# Altium footprint library MB11361.PcbLib: 40 footprints (part 3 of 3)
Each footprint in its own frame and in the unit in brackets; x right, y up, seen from the top. Pads: shape width x height; smd on the part's side, far side on the other; paste and mask are expansions set on the pad; w line width, h text height; cw(c..) or ccw(c..) is an arc to the next point about the centre after c.
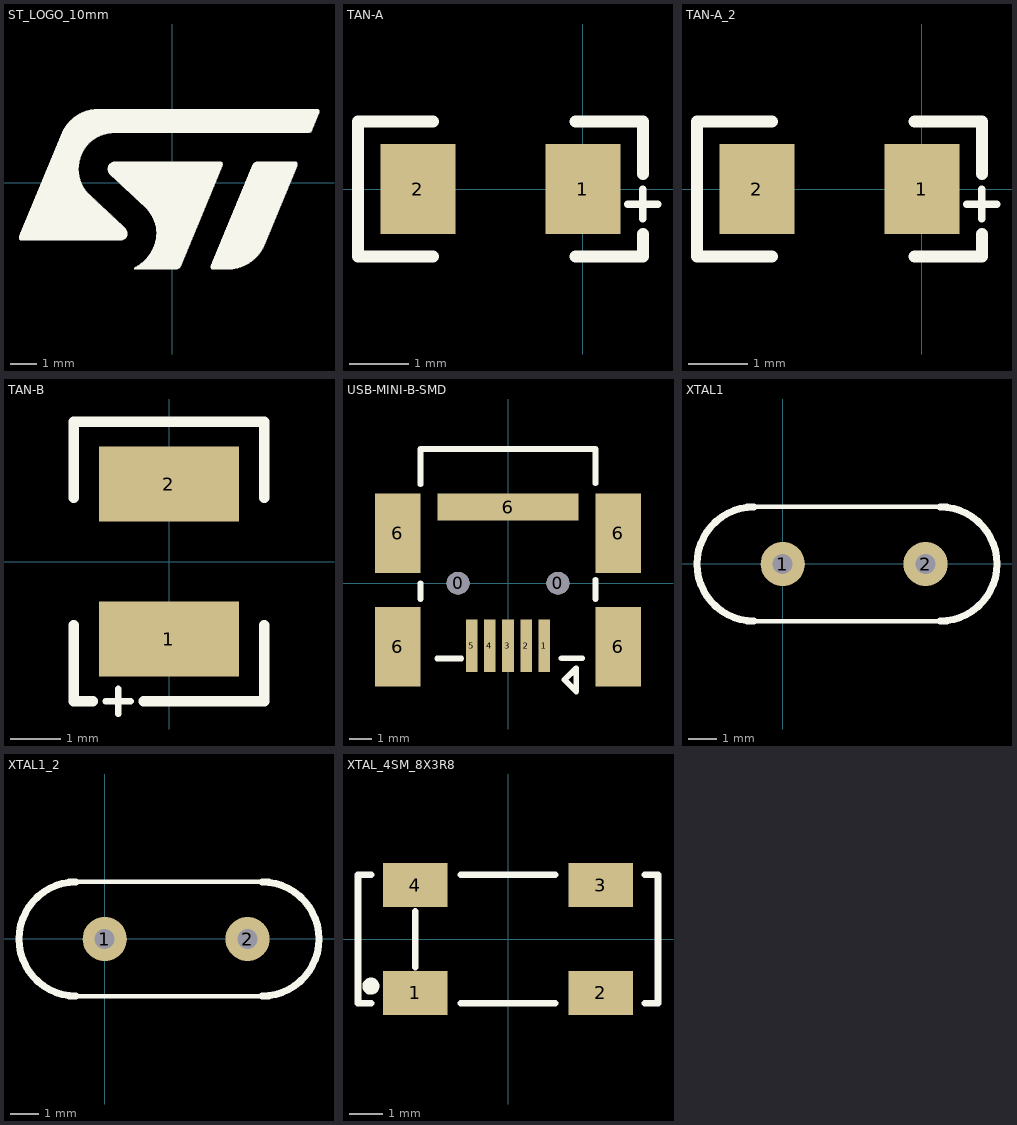
[diagram p2: the footprints below, top view; thin cyan lines are the x and y axes]

## ST_LOGO_10mm [mm]
height 1.1
Top Overlay:
  drawing of 1036 lines, arcs and shapes, not listed

## TAN-A [mil]
height 39.37
pads (2):
  rect 50x60 smd: 1(0,0) 2(-110,0)
Top Overlay:
  lines w5: 30,-10 50,-10 ; 40,-20 40,0
  lines w8: -100,-45 -150,-45 -150,45 -100,45 ; -5,-45 40,-45 40,-30 ; -5,45 40,45 40,10

## TAN-A_2 [mil]
pads (2):
  rect 50x60 smd: 1(0,0) 2(-110,0)
Top Overlay:
  lines w5: 30,-10 50,-10 ; 40,-20 40,0
  lines w8: -100,-45 -150,-45 -150,45 -100,45 ; -5,-45 40,-45 40,-30 ; -5,45 40,45 40,10

## TAN-B [mm]
height 5
pads (2):
  rect 2.8x1.5 smd: 1(0,-1.55) 2(0,1.55)
Top Overlay:
  lines w0.127: -1.27,-2.794 -0.762,-2.794 ; -1.016,-3.048 -1.016,-2.54
  lines w0.203: -1.905,-1.27 -1.905,-2.794 -1.524,-2.794 ; -1.905,1.27 -1.905,2.794 1.905,2.794 1.905,1.27 ; -0.508,-2.794 1.905,-2.794 1.905,-1.27
Mechanical 13:
  lines w0.1: -1.35,-1.7 1.35,-1.7 ; -1.35,1.7 1.35,1.7

## USB-MINI-B-SMD [mm]
height 2
pads (12):
  round 1 hole 1 unplated: 0(-2.2,0) 0(2.194,0)
  rect 0.508x2.3 smd: 1(1.597,-2.75) 2(0.797,-2.75) 3(-0.003,-2.75) 4(-0.803,-2.75) 5(-1.603,-2.75)
  rect 2x3.5 smd: 6(-4.853,-2.8) 6(-4.853,2.2) 6(4.847,-2.8) 6(4.847,2.2)
  rect 6.2x1.2 smd: 6(0,3.35)
Top Overlay:
  lines w0.254: -3.853,-0.7 -3.853,0 ; -3.853,4.35 -3.853,5.9 3.847,5.9 3.847,4.4 ; -3.113,-3.308 -2.06,-3.308 ; 2.347,-3.302 3.267,-3.302 ; 3.847,-0.7 3.847,0.15 ; 2.489,-4.253 2.997,-4.761 2.997,-3.745 2.489,-4.253

## XTAL1 [mil]
height 78.74
pads (2):
  round 62 hole 28: 1(-0.36,-0.2) 2(199.64,-0.2)
Top Overlay:
  lines w6.3: -40.36,-80.2 219.64,-80.2 ; -40.36,79.8 219.64,79.8
  lines w10: -40.36,-80.2 cw(c-40.36,-0.2) -40.36,79.8 ; 219.64,-80.2 ccw(c219.64,-0.2) 219.64,79.8

## XTAL1_2 [mil]
pads (2):
  round 62 hole 28: 1(-0.36,-0.2) 2(199.64,-0.2)
Top Overlay:
  lines w6.3: -40.36,-80.2 219.64,-80.2 ; -40.36,79.8 219.64,79.8
  lines w10: -40.36,-80.2 cw(c-40.36,-0.2) -40.36,79.8 ; 219.64,-80.2 ccw(c219.64,-0.2) 219.64,79.8

## XTAL_4SM_8X3R8 [mm]
height 2
pads (4):
  rect 1.9x1.3 smd: 1(-2.75,-1.6) 2(2.75,-1.6) 3(2.75,1.6) 4(-2.75,1.6)
Top Overlay:
  circle w0.254: c-4.064,-1.397 r0.127
  lines w0.203: -4.064,-1.905 -4.445,-1.905 -4.445,1.905 -4.064,1.905 ; -2.75,-0.838 -2.75,0.813 ; -1.397,-1.905 1.397,-1.905 ; -1.397,1.905 1.397,1.905 ; 4.064,-1.905 4.445,-1.905 4.445,-1.651 4.445,1.651 4.445,1.905 4.064,1.905